# EAGLE library part STM8S003FX (library ST-MCU)
• 16 MHz advanced STM8 core with Harvard architecture and 3-stage pipeline • Extended instruction set Memories • Program memory: 8 Kbyte Flash memory; data retention 20 years at 55 °C after 100 cycles • RAM: 1 Kbyte • Data memory: 128 bytes true data EEPROM; endurance up to 100 k write/erase cycles Clock, reset and supply management • 2.95 V to 5.5 V operating voltage • Flexible clock control, 4 master clock sources – Low-power crystal resonator oscillator – External clock input – Internal, user-trimmable 16 MHz RC – Internal low-power 128 kHz RC • Clock security system with clock monitor • Power management – Low-power modes (wait, active-halt, halt) – Switch-off peripheral clocks individually – Permanently active, low-consumption power-on and power-down reset Interrupt management • Nested interrupt controller with 32 interrupts • Up to 27 external interrupts on 6 vectors
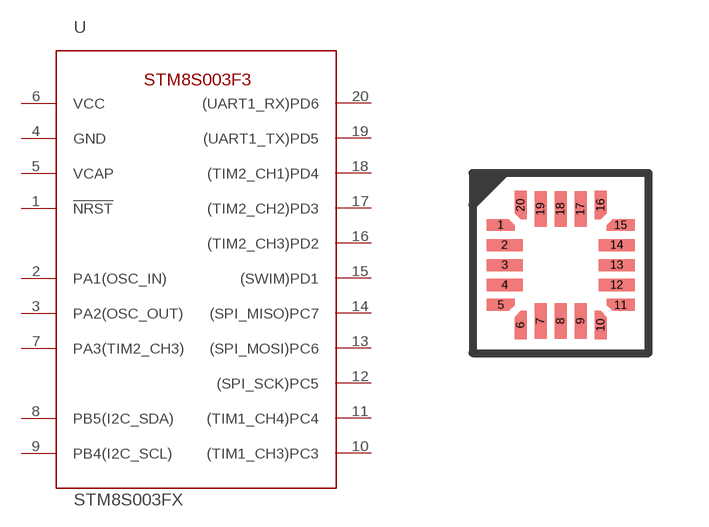
[diagram p4: symbol with the pads of UFQFPN20; footprint UFQFPN20]

Designator prefix U

## STM8S003FXU6  [UFQFPN20]
1  !NRST!
2  PA1(OSC_IN)
3  PA2(OSC_OUT)
4  GND  pwr
5  VCAP  sup
6  VCC  pwr
7  PA3(TIM2_CH3)
8  PB5(I2C_SDA)
9  PB4(I2C_SCL)
10  (TIM1_CH3)PC3
11  (TIM1_CH4)PC4
12  (SPI_SCK)PC5
13  (SPI_MOSI)PC6
14  (SPI_MISO)PC7
15  (SWIM)PD1
16  (TIM2_CH3)PD2
17  (TIM2_CH2)PD3
18  (TIM2_CH1)PD4
19  (UART1_TX)PD5
20  (UART1_RX)PD6

## Footprint UFQFPN20 (pad centres in mm)
smd 0.3 x 0.3: 1 -1.5,1; 5 -1.5,-1; 6 -1,-1.5; 10 1,-1.5; 11 1.5,-1; 15 1.5,1; 16 1,1.5; 20 -1,1.5
smd 0.9 x 0.3: 2 -1.4,0.5; 3 -1.4,0; 4 -1.4,-0.5; 12 1.4,-0.5; 13 1.4,0; 14 1.4,0.5
smd 0.3 x 0.9: 7 -0.5,-1.4; 8 0,-1.4; 9 0.5,-1.4; 17 0.5,1.4; 18 0,1.4; 19 -0.5,1.4